# Altium footprint library F516-1A7H1-21018.PcbLib: 1 footprints
Each footprint in its own frame and in the unit in brackets; x right, y up, seen from the top. Pads: shape width x height; smd on the part's side, far side on the other; paste and mask are expansions set on the pad; w line width, h text height; cw(c..) or ccw(c..) is an arc to the next point about the centre after c.
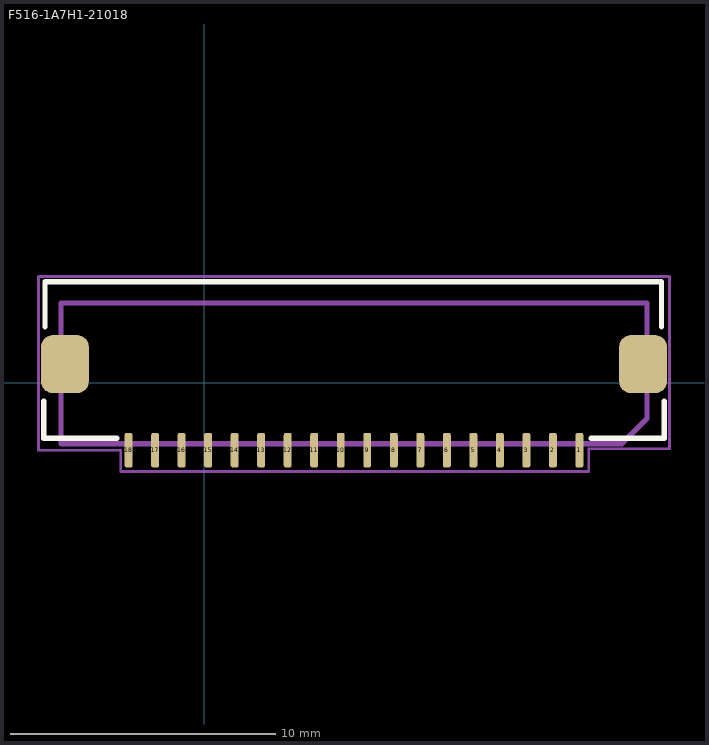
[diagram p0: the footprint, top view; thin cyan lines are the x and y axes]

## F516-1A7H1-21018 [mm]
pads (20):
  rrect50% 0.3x1.3 smd mask+0: 1(14.15,-2.55) 2(13.15,-2.55) 3(12.15,-2.55) 4(11.15,-2.55) 5(10.15,-2.55) 6(9.15,-2.55) 7(8.15,-2.55) 8(7.15,-2.55) 9(6.15,-2.55) 10(5.15,-2.55) 11(4.15,-2.55) 12(3.15,-2.55) 13(2.15,-2.55) 14(1.15,-2.55) 15(0.15,-2.55) 16(-0.85,-2.55) 17(-1.85,-2.55) 18(-2.85,-2.55)
  rrect50% 1.8x2.2 smd mask+0: ""(-5.25,0.7) ""(16.55,0.7)
Top Overlay:
  lines w0.2: -6.05,-0.7 -6.05,-2.1 -3.3,-2.1 ; -6,2.1 -6,3.8 17.25,3.8 17.25,2.1 ; 14.6,-2.1 17.35,-2.1 17.35,-0.7
Mechanical 3:
  lines w0.2: -5.4,-2.3 15.75,-2.3 16.7,-1.35 16.7,3 -5.4,3 -5.4,-2.3
Mechanical 7:
  lines w0.1: -6.25,-2.55 -3.15,-2.55 -3.15,-3.35 14.15,-3.35 14.5,-3.35 14.5,-2.5 17.55,-2.5 17.55,4 -6.25,4 -6.25,-2.55
Mechanical 9 (Mech9):
  text ".Designator" at -4.097,-1.2 h2
3D body "f516_526_18pin_asm.stp": height 2.05, standoff 0.01, extent -5.8,-2.8 17.1,3.65
3D body: height 2, standoff 0, extent -6.25,-3.35 17.55,4